# Altium footprint library LTC.PcbLib: 11 footprints
Each footprint in its own frame and in the unit in brackets; x right, y up, seen from the top. Pads: shape width x height; smd on the part's side, far side on the other; paste and mask are expansions set on the pad; w line width, h text height; cw(c..) or ccw(c..) is an arc to the next point about the centre after c.
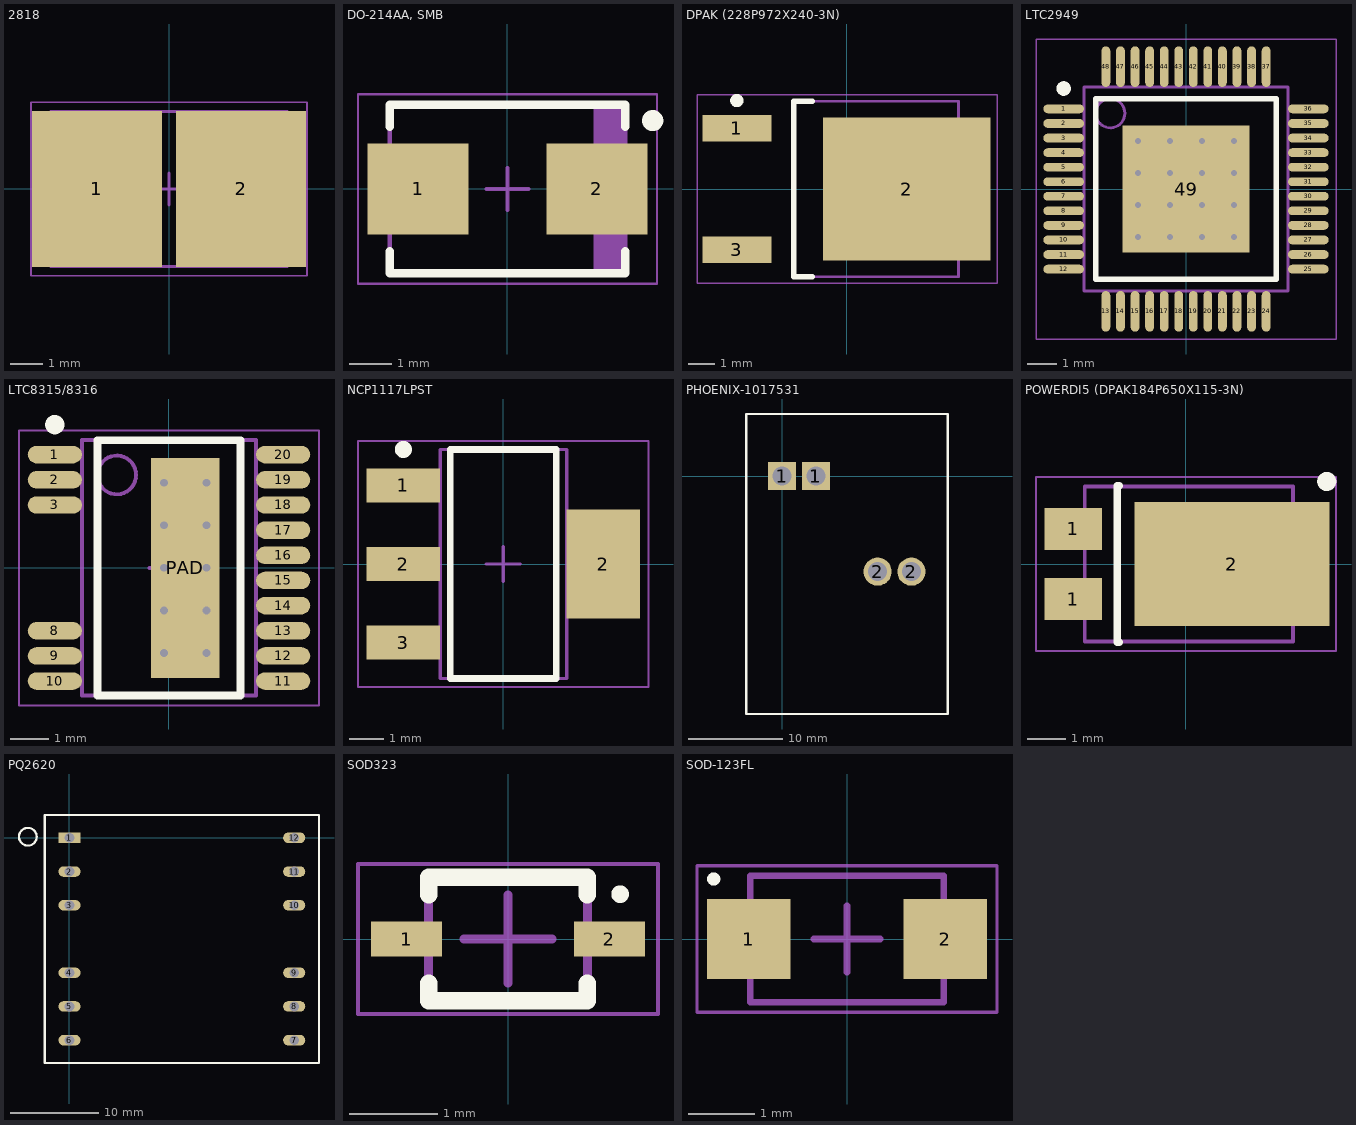
[diagram p0: the footprints below, top view; thin cyan lines are the x and y axes]

## 2818 [mm] "Chip Resistor, 2-Leads, Body 7.11x4.57mm, IPC Medium Density"
height 1.76
pads (2):
  rect 4.05x4.85 smd: 1(-2.25,0) 2(2.25,0)
Mechanical 13:
  lines w0.1: -3.685,-2.415 -3.685,2.415 3.685,2.415 3.685,-2.415 -3.685,-2.415
Mechanical 15:
  lines w0.05: -4.3,-2.7 -4.3,2.7 4.3,2.7 4.3,-2.7 -4.3,-2.7
  lines w0.1: -0.5,0 0.5,0 ; 0,-0.5 0,0.5
3D body: height 1.76, standoff 0, extent -0.505,-2.415 0.505,2.415
3D body: height 1.76, standoff 0, extent -3.685,-2.415 -0.505,2.415
3D body: height 1.76, standoff 0, extent 0.505,-2.415 3.685,2.415

## DO-214AA, SMB [mm] "Molded Diode, 2-Leads, Body 5.40x3.62mm, IPC Medium Density"
height 2.44
pads (2):
  rect 2.4x2.15 smd: 1(-2.125,0) 2(2.125,0)
Top Overlay:
  circle w0.25: c3.45,1.625 r0.125
  lines w0.2: -2.8,-1.475 -2.8,-2 2.8,-2 2.8,-1.475 ; -2.8,1.475 -2.8,2 2.8,2 2.8,1.475
Mechanical 13:
  rectangle: 2.043,-1.97 2.795,1.97
  lines w0.1: -2.795,-1.97 2.795,-1.97 2.795,1.97 -2.795,1.97 -2.795,-1.97
Mechanical 15:
  lines w0.05: -3.55,-2.25 3.55,-2.25 3.55,2.25 -3.55,2.25 -3.55,-2.25
  lines w0.1: -0.5,0 0.5,0 ; 0,-0.5 0,0.5
3D body: height 2.44, standoff 0, extent -2.795,-1.97 2.795,1.97

## DPAK (228P972X240-3N) [mm] "D-PAK, 3-Pads, Body 6.20x6.66mm (max), IPC Medium Density"
height 2.4
pads (3):
  rect 2.6x1 smd: 1(-4.15,2.28) 3(-4.15,-2.28)
  rect 6.3x5.4 smd: 2(2.25,0)
Top Overlay:
  circle w0.25: c-4.15,3.33 r0.125
  lines w0.2: -1.3,-3.3 -2,-3.3 -2,3.3 -1.3,3.3
Mechanical 13:
  lines w0.1: -2,-3.3 4.2,-3.3 4.2,3.3 -2,3.3 -2,-3.3
Mechanical 15:
  lines w0.05: -5.65,-3.55 5.65,-3.55 5.65,3.55 -5.65,3.55 -5.65,-3.55
  lines w0.1: -0.5,0 0.5,0 ; 0,-0.5 0,0.5
3D body: height 2.4, standoff 0.03, extent -2,-3.3 4.2,3.3

## LTC2949 [mm] "LQFP, 48-Leads, IPC Medium Density"
height 1.6
pads (49):
  oval 1.4x0.3 smd: 1(-4.2,2.75) 2(-4.2,2.25) 3(-4.2,1.75) 4(-4.2,1.25) 5(-4.2,0.75) 6(-4.2,0.25) 7(-4.2,-0.25) 8(-4.2,-0.75) 9(-4.2,-1.25) 10(-4.2,-1.75) 11(-4.2,-2.25) 12(-4.2,-2.75) 25(4.2,-2.75) 26(4.2,-2.25) 27(4.2,-1.75) 28(4.2,-1.25) 29(4.2,-0.75) 30(4.2,-0.25) 31(4.2,0.25) 32(4.2,0.75) 33(4.2,1.25) 34(4.2,1.75) 35(4.2,2.25) 36(4.2,2.75)
  oval 0.3x1.4 smd: 13(-2.75,-4.2) 14(-2.25,-4.2) 15(-1.75,-4.2) 16(-1.25,-4.2) 17(-0.75,-4.2) 18(-0.25,-4.2) 19(0.25,-4.2) 20(0.75,-4.2) 21(1.25,-4.2) 22(1.75,-4.2) 23(2.25,-4.2) 24(2.75,-4.2) 37(2.75,4.2) 38(2.25,4.2) 39(1.75,4.2) 40(1.25,4.2) 41(0.75,4.2) 42(0.25,4.2) 43(-0.25,4.2) 44(-0.75,4.2) 45(-1.25,4.2) 46(-1.75,4.2) 47(-2.25,4.2) 48(-2.75,4.2)
  rect 4.35x4.35 smd: 49(0,0)
via -1.65,1.65 diameter 0.5 hole 0.2
via -0.55,1.65 diameter 0.5 hole 0.2
via 0.55,1.65 diameter 0.5 hole 0.2
via 1.65,1.65 diameter 0.5 hole 0.2
via -1.65,0.55 diameter 0.5 hole 0.2
via -0.55,0.55 diameter 0.5 hole 0.2
via 0.55,0.55 diameter 0.5 hole 0.2
via 1.65,0.55 diameter 0.5 hole 0.2
via -1.65,-0.55 diameter 0.5 hole 0.2
via -0.55,-0.55 diameter 0.5 hole 0.2
via 0.55,-0.55 diameter 0.5 hole 0.2
via 1.65,-0.55 diameter 0.5 hole 0.2
via -1.65,-1.65 diameter 0.5 hole 0.2
via -0.55,-1.65 diameter 0.5 hole 0.2
via 0.55,-1.65 diameter 0.5 hole 0.2
via 1.65,-1.65 diameter 0.5 hole 0.2
Top Overlay:
  circle w0.25: c-4.2,3.45 r0.125
  lines w0.2: -3.1,-3.1 -3.1,3.1 3.1,3.1 3.1,-3.1 -3.1,-3.1
Mechanical 13:
  circle w0.1: c-2.6,2.6 r0.5
  lines w0.1: -3.5,-3.5 -3.5,3.5 3.5,3.5 3.5,-3.5 -3.5,-3.5
Mechanical 15:
  lines w0.05: -5.15,-5.15 -5.15,5.15 5.15,5.15 5.15,-5.15 -5.15,-5.15
  lines w0.1: -0.5,0 0.5,0 ; 0,-0.5 0,0.5
3D body: height 1.6, standoff 0.1, extent -3.5,-3.5 3.5,3.5

## LTC8315/8316 [mm] "TSOP, 20-Leads, Body 6.50x4.40mm, Pitch 0.65mm, Thermal Pad 5.68x1.78mm, IPC Medium Density"
height 1.2
pads (17):
  oval 1.4x0.45 smd: 1(-2.95,2.925) 2(-2.95,2.275) 3(-2.95,1.625) 8(-2.95,-1.625) 9(-2.95,-2.275) 10(-2.95,-2.925) 11(2.95,-2.925) 12(2.95,-2.275) 13(2.95,-1.625) 14(2.95,-0.975) 15(2.95,-0.325) 16(2.95,0.325) 17(2.95,0.975) 18(2.95,1.625) 19(2.95,2.275) 20(2.95,2.925)
  rect 1.78x5.68 smd: PAD(0.42,0)
via 0.97,-2.2 diameter 0.5 hole 0.2
via -0.13,-2.2 diameter 0.5 hole 0.2
via 0.97,-1.1 diameter 0.5 hole 0.2
via -0.13,-1.1 diameter 0.5 hole 0.2
via 0.97,0 diameter 0.5 hole 0.2
via -0.13,0 diameter 0.5 hole 0.2
via 0.97,1.1 diameter 0.5 hole 0.2
via -0.13,1.1 diameter 0.5 hole 0.2
via 0.97,2.2 diameter 0.5 hole 0.2
via -0.13,2.2 diameter 0.5 hole 0.2
Top Overlay:
  circle w0.25: c-2.95,3.7 r0.125
  lines w0.2: -1.85,-3.3 1.85,-3.3 1.85,3.3 -1.85,3.3 -1.85,-3.3
Mechanical 13:
  circle w0.1: c-1.35,2.4 r0.5
  lines w0.1: -2.25,-3.3 2.25,-3.3 2.25,3.3 -2.25,3.3 -2.25,-3.3
Mechanical 15:
  lines w0.05: -3.875,-3.55 3.875,-3.55 3.875,3.55 -3.875,3.55 -3.875,-3.55
  lines w0.1: -0.5,0 0.5,0 ; 0,-0.5 0,0.5
3D body: height 1.2, standoff 0.05, extent -2.25,-3.3 2.25,3.3

## NCP1117LPST [mm] "SOT223, 4-Leads, Body 6.50x7.00mm (avg), Pitch 2.30mm, IPC Medium Density"
height 1.8
pads (4):
  rect 2.15x1 smd: 1(-2.925,2.3) 2(-2.925,0) 3(-2.925,-2.3)
  rect 2.15x3.2 smd: 2(2.925,0)
Top Overlay:
  circle w0.25: c-2.925,3.35 r0.125
  lines w0.2: -1.55,-3.35 -1.55,3.35 1.55,3.35 1.55,-3.35 -1.55,-3.35
Mechanical 13:
  lines w0.1: -1.85,-3.35 -1.85,3.35 1.85,3.35 1.85,-3.35 -1.85,-3.35
Mechanical 15:
  lines w0.05: -4.25,-3.6 -4.25,3.6 4.25,3.6 4.25,-3.6 -4.25,-3.6
  lines w0.1: -0.5,0 0.5,0 ; 0,-0.5 0,0.5
3D body: height 1.8, standoff 0.02, extent -1.85,-3.35 1.85,3.35

## PHOENIX-1017531 [mm]
pads (5):
  rect 3x3 hole 2: 1(0,0) 1(3.6,0)
  round 3 hole 2: 1(3.6,0) 2(10.16,-10.16) 2(13.76,-10.16)
Top Overlay:
  lines w0.254: -3.79,-25.3 -3.79,6.6 17.6,6.6 17.6,-25.3 -3.79,-25.3

## POWERDI5 (DPAK184P650X115-3N) [mm] "TO, 3-Pads, Body 5.83x5.39mm (max), IPC Medium Density"
height 1.15
pads (3):
  rect 1.5x1.1 smd: 1(-2.95,-0.92) 1(-2.95,0.92)
  rect 5.1x3.25 smd: 2(1.2,0)
Top Overlay:
  circle w0.25: c3.683,2.159 r0.125
  lines w0.2: -1.75,-2.05 -1.8,-2.05 -1.8,2.05 -1.75,2.05
Mechanical 13:
  lines w0.1: -2.65,-2.025 -2.65,2.025 2.8,2.025 2.8,-2.025 -2.65,-2.025
Mechanical 15:
  lines w0.05: -3.925,-2.275 -3.925,2.275 3.925,2.275 3.925,-2.275 -3.925,-2.275
  lines w0.1: -0.5,0 0.5,0 ; 0,-0.5 0,0.5
3D body: height 1.15, standoff 0, extent -2.65,-2.025 2.8,2.025

## PQ2620 [mm] "SUMIDA 11328-T080"
pads (12):
  rect 2.5x1.2 hole 1.1: 1(0,0)
  oval 2.5x1.2 hole 1.1: 2(0,-3.81) 3(0,-7.62) 4(0,-15.24) 5(0,-19.05) 6(0,-22.86) 7(25.4,-22.86) 8(25.4,-19.05) 9(25.4,-15.24) 10(25.4,-7.62) 11(25.4,-3.81) 12(25.4,0)
Top Overlay:
  circle w0.25: c-4.699,0.127 r1
  lines w0.254: -2.8,-25.43 28.2,-25.43 28.2,2.57 -2.8,2.57 -2.8,-25.43

## SOD323 [mm] "SODFL, 2-Leads, Body 1.30x2.50mm, IPC Medium Density"
height 1.2
pads (2):
  rect 0.8x0.4 smd: 1(-1.15,0) 2(1.15,0)
Top Overlay:
  circle w0.1: c1.27,0.508 r0.05
  lines w0.2: -0.9,-0.5 -0.9,-0.7 0.9,-0.7 0.9,-0.5 ; -0.9,0.5 -0.9,0.7 0.9,0.7 0.9,0.5
Mechanical 13:
  lines w0.1: -0.9,-0.7 -0.9,0.7 0.9,0.7 0.9,-0.7 -0.9,-0.7
Mechanical 15:
  lines w0.05: -1.7,-0.85 -1.7,0.85 1.7,0.85 1.7,-0.85 -1.7,-0.85
  lines w0.1: -0.5,0 0.5,0 ; 0,-0.5 0,0.5
3D body: height 1.2, standoff 0, extent -0.9,-0.7 0.9,0.7

## SOD-123FL [mm] "SOD-123FL, IPC Medium Density"
height 1.43
pads (2):
  rect 1.25x1.2 smd: 1(-1.475,0) 2(1.475,0)
Top Overlay:
  circle w0.1: c-2,0.9 r0.05
Mechanical 13:
  lines w0.1: -1.45,-0.95 1.45,-0.95 1.45,0.95 -1.45,0.95 -1.45,-0.95
Mechanical 15:
  lines w0.05: -2.25,-1.1 2.25,-1.1 2.25,1.1 -2.25,1.1 -2.25,-1.1
  lines w0.1: -0.5,0 0.5,0 ; 0,-0.5 0,0.5
3D body: height 1.43, standoff 0, extent -1.45,-0.95 1.45,0.95